# EAGLE library part LTC4361 (library DAQTEST)
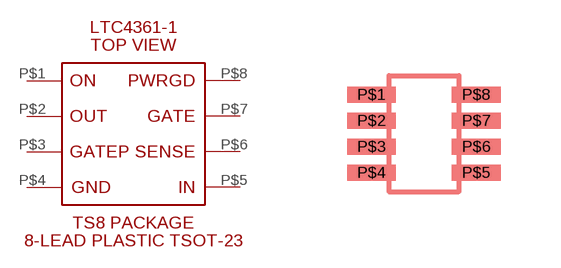
[diagram p3: symbol with the pads of TSOT23-8; footprint TSOT23-8]

Designator prefix -

## LTC4361  [TSOT23-8]
P$1  P$1
P$2  P$2
P$3  P$3
P$4  P$4
P$5  P$5
P$6  P$6
P$7  P$7
P$8  P$8

## Footprint TSOT23-8 (pad centres in mm)
smd 1.22 x 0.4: P$1 -1.31,0.975; P$2 -1.31,0.325; P$3 -1.31,-0.325; P$4 -1.31,-0.975; P$5 1.31,-0.975; P$6 1.31,-0.325; P$7 1.31,0.325; P$8 1.31,0.975